# Altium footprint library all_kalex_Library.PcbLib: 234 footprints (part 4 of 15)
Each footprint in its own frame and in the unit in brackets; x right, y up, seen from the top. Pads: shape width x height; smd on the part's side, far side on the other; paste and mask are expansions set on the pad; w line width, h text height; cw(c..) or ccw(c..) is an arc to the next point about the centre after c.
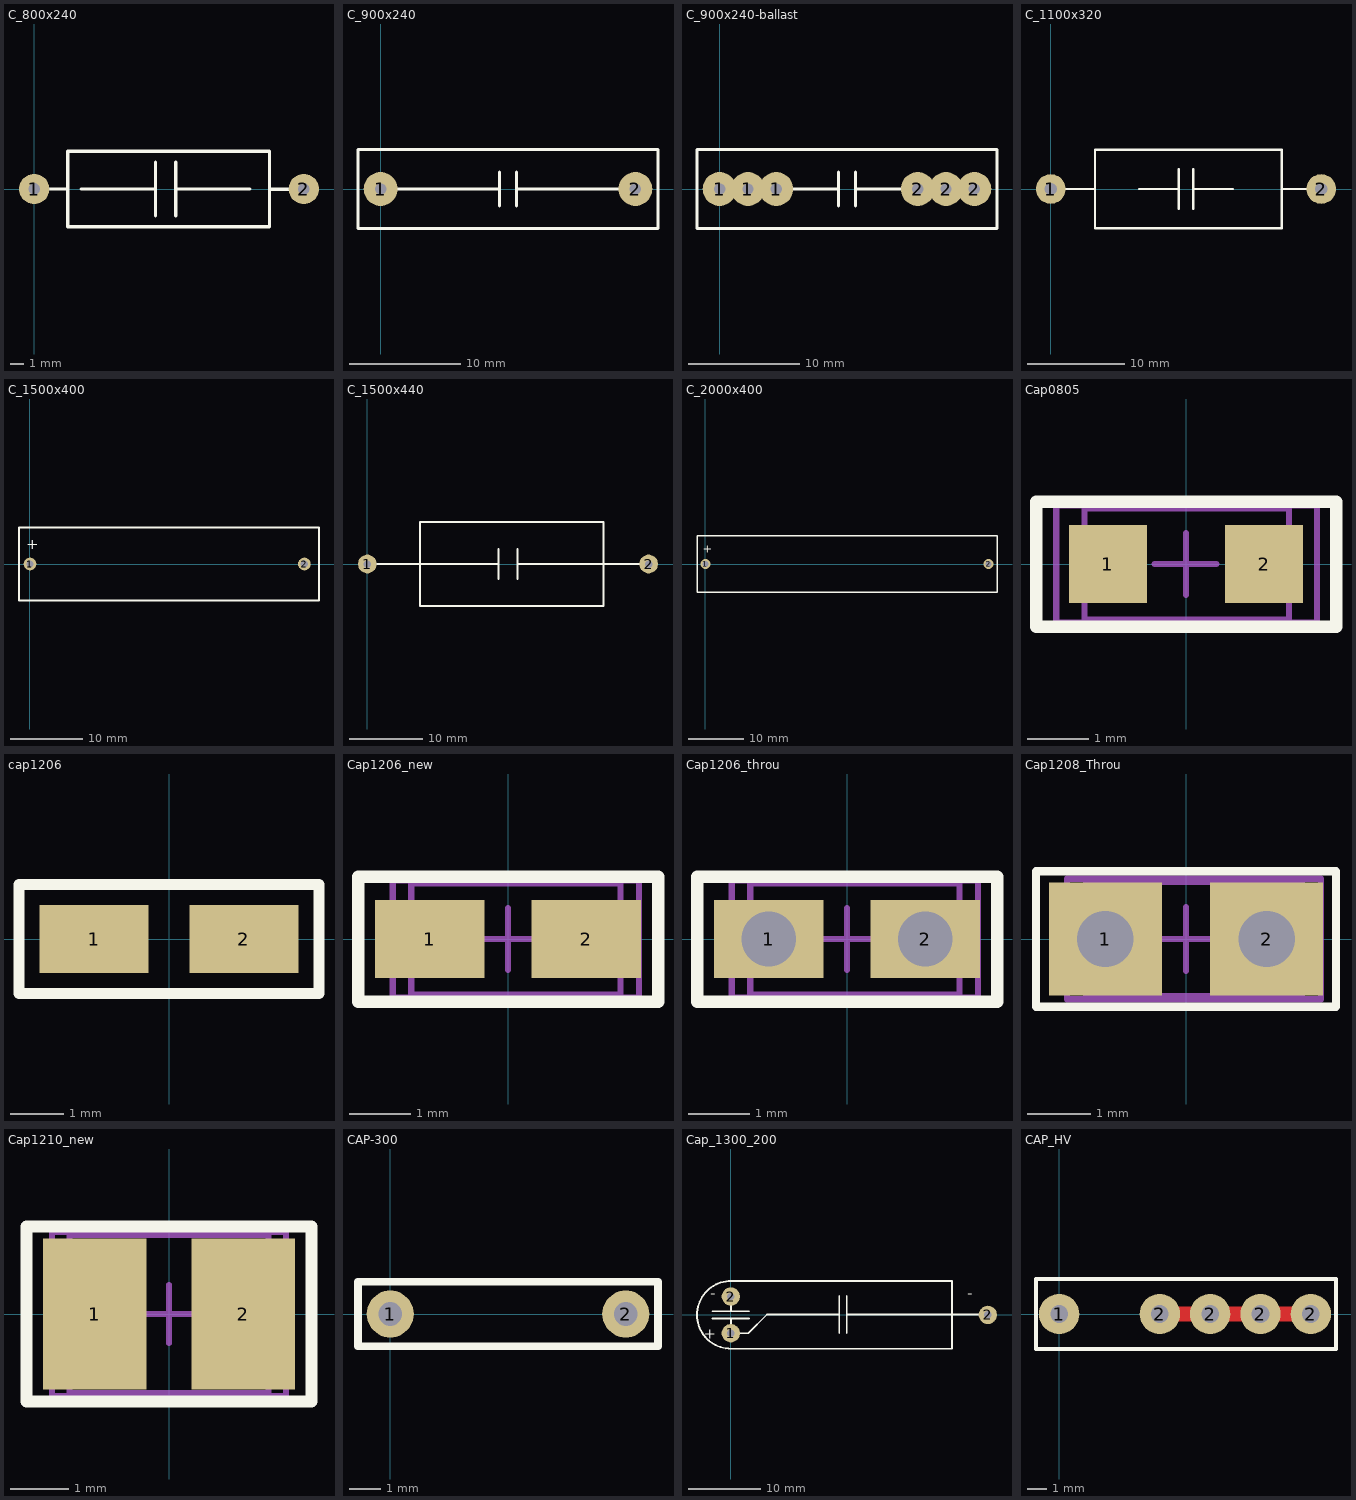
[diagram p3: the footprints below, top view; thin cyan lines are the x and y axes]

## C_800x240 [mil]
pads (2):
  round 90 hole 35: 1(0,0) 2(800,0)
Top Overlay:
  lines w10: 0,0 100,0 ; 140,0 360,0 ; 360,-80 360,80 ; 420,-80 420,80 ; 420,0 640,0 ; 698,-1 798,-1 ; 100,0 100,112 698,112 698,-112 100,-112 100,0

## C_900x240 [mil]
pads (2):
  round 120 hole 40: 1(0,0) 2(900,0)
Top Overlay:
  lines w10: 0,0 420,0 420,60 420,-60 ; 480,-60 480,60 480,0 900,0 ; -80,-140 -80,140 980,140 980,-140 -80,-140

## C_900x240-ballast [mil]
pads (6):
  round 120 hole 40: 1(0,0) 1(100,0) 1(200,0) 2(700,0) 2(800,0) 2(900,0)
Top Overlay:
  lines w10: 0,0 420,0 420,60 420,-60 ; 480,-60 480,60 480,0 900,0 ; -80,-140 980,-140 980,140 -80,140 -80,-140

## C_1100x320 [mil]
pads (2):
  round 120 hole 50: 1(0,0) 2(1100,0)
Top Overlay:
  lines w10: 0,0 180,0 ; 360,0 520,0 520,80 520,-80 ; 580,-80 580,80 ; 580,0 740,0 ; 940,0 1100,0 ; 180,-160 180,160 940,160 940,-160 180,-160

## C_1500x400 [mil]
pads (2):
  round 70 hole 40: 1(0,0) 2(1500,0)
Top Overlay:
  lines w10: -60,-200 1580,-200 1580,200 -60,200 -60,-200
  text "+" at -20,80 h60

## C_1500x440 [mil]
pads (2):
  round 100 hole 40: 1(0,0) 2(1500,0)
Top Overlay:
  lines w10: 0,0 100,0 700,0 ; 700,-80 700,80 ; 800,-80 800,80 ; 800,0 1500,0 ; 280,-225 1260,-225 1260,225 280,225 280,-225

## C_2000x400 [mil]
pads (2):
  round 70 hole 40: 1(0,0) 2(2000,0)
Top Overlay:
  lines w10: -60,-200 2060,-200 2060,200 -60,200 -60,-200
  text "+" at -20,80 h60

## Cap0805 [mil]
pads (2):
  rect 50x50 smd: 1(-50,0) 2(50,0)
Top Overlay:
  lines w8: -96,-40 96,-40 96,40 -96,40 -96,-40
Mechanical 13:
  lines w3.94: -65,-35.43 -65,35.43 66,35.43 66,-35.43 -65,-35.43
Mechanical 15:
  lines w3.94: -20,0 19.37,0 ; 0,-19.69 0,19.68 ; -83,-37.4 -83,37.4 83.74,37.4 83.74,-37.4 -83,-37.4
3D body: height 51.18, standoff 0, extent -66.93,-35.43 66.93,35.43

## cap1206 [mil]
pads (2):
  rect 80x50 smd: 1(-55,0) 2(55,0)
Top Overlay:
  lines w8: -110,-40 110,-40 110,40 -110,40 -110,0 -110,-40

## Cap1206_new [mil]
pads (2):
  rect 70x50 smd: 1(-50,0) 2(50,0)
Top Overlay:
  lines w8: -96,-40 -96,40 96,40 96,-40 -96,-40
Mechanical 13:
  lines w3.94: -61.93,-35.43 71.93,-35.43 71.93,35.43 -61.93,35.43 -61.93,-35.43
Mechanical 15:
  lines w3.94: -20,0 19.37,0 ; 0,-19.69 0,19.68 ; -73.74,-37.4 83.74,-37.4 83.74,37.4 -73.74,37.4 -73.74,-37.4
3D body: height 51.18, standoff 0, extent -66.93,-35.43 66.93,35.43

## Cap1206_throu [mil]
pads (2):
  rect 70x50 hole 35: 1(-50,0) 2(50,0)
Top Overlay:
  lines w8: -96,-40 -96,40 96,40 96,-40 -96,-40
Mechanical 13:
  lines w3.94: -61.93,-35.43 71.93,-35.43 71.93,35.43 -61.93,35.43 -61.93,-35.43
Mechanical 15:
  lines w3.94: -20,0 19.37,0 ; 0,-19.69 0,19.68 ; -73.74,-37.4 83.74,-37.4 83.74,37.4 -73.74,37.4 -73.74,-37.4
3D body: height 51.18, standoff 0, extent -66.93,-35.43 66.93,35.43

## Cap1208_Throu [mil]
height 150
pads (2):
  rect 70x70 hole 35: 1(-50,0) 2(50,0)
Top Overlay:
  lines w5: -93,-42 -93,42 93,42 93,-42 -93,-42
Mechanical 13:
  lines w3.94: -61.93,-35.43 71.93,-35.43 71.93,35.43 -61.93,35.43 -61.93,-35.43
Mechanical 15:
  lines w3.94: -20,0 19.37,0 ; 0,-19.69 0,19.68 ; -73.74,-37.4 83.74,-37.4 83.74,37.4 -73.74,37.4 -73.74,-37.4
3D body: height 51.18, standoff 0, extent -66.93,-35.43 66.93,35.43

## Cap1210_new [mil]
pads (2):
  rect 70x102 smd: 1(-50,0) 2(50,0)
Top Overlay:
  lines w8: -96,-59 -96,59 96,59 96,-59 -96,-59
Mechanical 13:
  lines w3.94: -66.93,-53.15 -66.93,53.15 66.93,53.15 66.93,-53.15 -66.93,-53.15
Mechanical 15:
  lines w3.94: -19.68,0 19.68,0 ; 0,-19.69 0,19.68 ; -78.74,-55.12 -78.74,55.12 78.74,55.12 78.74,-55.12 -78.74,-55.12
3D body: height 51.18, standoff 0, extent -66.93,-53.15 66.93,53.15

## CAP-300 [mil]
pads (2):
  round 60 hole 30: 1(0,0) 2(300,0)
Top Overlay:
  lines w10: -41,-41 341,-41 341,41 -41,41 -41,-41

## Cap_1300_200 [mil]
pads (3):
  round 100 hole 40: 1(0,-100) 2(0,100) 2(1400,0)
Top Overlay:
  lines w10: -100,-20 100,-20 ; -100,20 100,20 ; 0,-20 0,-100 95,-100 197,2 591,2 ; 0,20 0,100 ; 591,-98 591,102 ; 631,-98 631,102 ; 631,2 1400,2 ; 1202,184.38 2.06,184.38 ccw(c0,0) 0.99,-184.39 1204,-184.39 1204,184.38
  text "-" at 1317,133 h60
  text "-" at -81,134 h60
  text "+" at -80,-80 h60

## CAP_HV [mil]
pads (5):
  round 80 hole 35: 1(0,0) 2(200,0) 2(300,0) 2(400,0) 2(500,0)
Top Layer:
  lines w30: 200,0 500,0
Top Overlay:
  lines w8: -46,-70 550,-70 550,70 -46,70 -46,-70